# EAGLE library part SOC_RK3576 (library !GPLIB_ACTIVE)
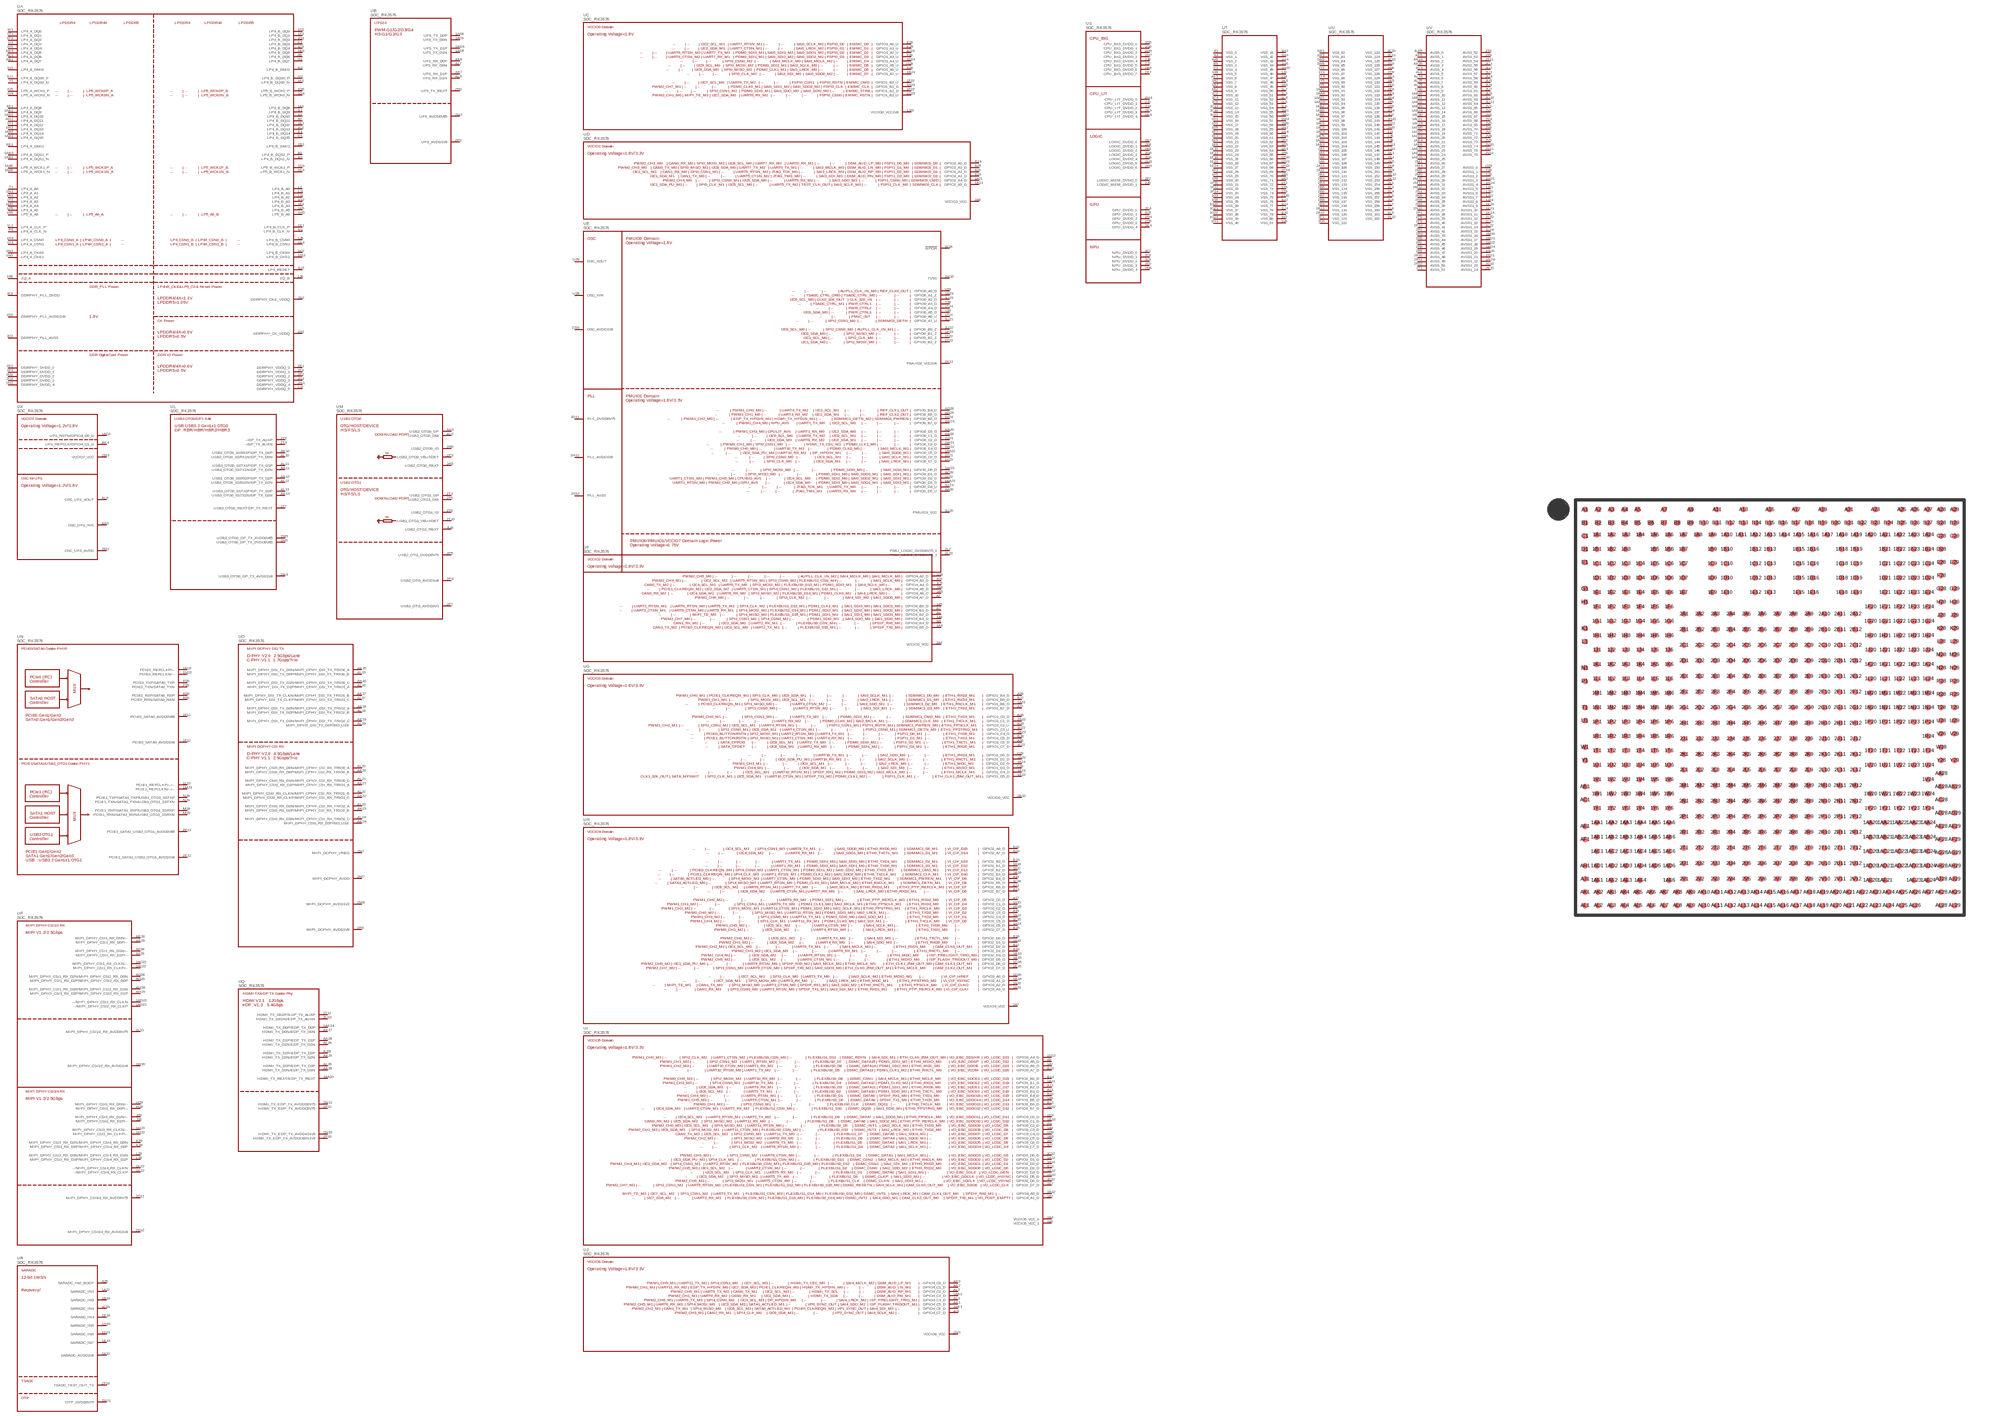
[diagram p73: symbol with the pads of FCCSP-698_L17.2-W16.1-TL_RK3576; footprint FCCSP-698_L17.2-W16.1-TL_RK3576]

Designator prefix U; gates A=RK3576-A B=RK3576-B C=RK3576-C D=RK3576-D E=RK3576-E F=RK3576-F G=RK3576-G H=RK3576-H I=RK3576-I J=RK3576-J K=RK3576-K L=RK3576-L M=RK3576-M N=RK3576-N O=RK3576-O P=RK3576-P Q=RK3576-Q R=RK3576-R S=RK3576-S T=RK3576-T U=RK3576-U V=RK3576-V

## SOC_RK3576  [FCCSP-698_L17.2-W16.1-TL_RK3576]
1A1  A:LP4_B_DQ8
1A2  T:VSS_7  pwr
1A3  T:VSS_8  pwr
1A4  F:GPIO4_B5_D
1A5  F:GPIO4_B0_D
1A6  F:GPIO4_B3_D
1A7  I:GPIO3_A6_D
1A8  I:GPIO3_C3_D
1A9  I:GPIO3_B5_D
1A10  I:GPIO3_D2_D
1A11  I:GPIO3_B1_D
1A12  I:GPIO3_D1_D
1A13  H:GPIO2_C4_D
1A14  H:GPIO2_C6_D
1A15  H:GPIO2_C1_D
1A16  H:GPIO2_D1_D
1A17  H:GPIO2_B2_D
1A18  H:GPIO2_B1_D
1A19  H:GPIO3_A3_D
1A20  H:GPIO3_A2_D
1A21  D:GPIO2_A4_D
1A22  R:SARADC_IN1
1A23  G:GPIO1_B6_D
1A24  G:GPIO1_D2_D
1AA1  A:LP4_A_DQ15
1AA2  U:VSS_91  pwr
1AA3  A:LP4_A_DQ14
1AA4  U:VSS_92  pwr
1AA5  A:LP5_A_WCK1_N
1AA6  A:LP5_A_WCK1_P
1AA20  Q:HDMI_TX_REXT/EDP_TX_REXT
1AA21  U:VSS_93  pwr
1AA22  E:GPIO0_C5_D
1AA23  E:GPIO0_D3_D
1AA24  U:VSS_94  pwr
1AB1  A:LP4_A_DQ9
1AB2  U:VSS_95  pwr
1AB3  A:LP4_A_DQS1_N
1AB4  A:LP4_A_DQS1_P
1AB5  U:VSS_96  pwr
1AB6  U:VSS_97  pwr
1AB20  V:AVSS_10  pwr
1AB21  V:AVSS_11  pwr
1AB22  V:AVSS_12  pwr
1AB23  V:AVSS_13  pwr
1AB24  V:AVSS_14  pwr
1AC1  U:VSS_98  pwr
1AC2  U:VSS_99  pwr
1AC3  U:VSS_100  pwr
1AC4  U:VSS_101  pwr
1AC5  U:VSS_102  pwr
1AC6  B:UFS_TX_D0N
1AC20  V:AVSS_15  pwr
1AC21  V:AVSS_16  pwr
1AC22  P:MIPI_DPHY_CSI1_RX_CLKP/--
1AC23  P:MIPI_DPHY_CSI1_RX_CLKN/--
1AC24  V:AVSS_17  pwr
1AD1  A:LP4_A_DQ10
1AD2  K:UFS_RSTN/GPIO4_D0_D
1AD3  U:VSS_103  pwr
1AD4  B:UFS_TX_D1P
1AD5  B:UFS_TX_D1N
1AD6  B:UFS_TX_D0P
1AD20  V:AVSS_18  pwr
1AD21  P:--/MIPI_DPHY_CSI2_RX_CLKP
1AD22  P:--/MIPI_DPHY_CSI2_RX_CLKN
1AD23  V:AVSS_19  pwr
1AD24  V:AVSS_20  pwr
1AE1  J:GPIO4_C6_D
1AE2  J:GPIO4_C3_D
1AE3  U:VSS_104  pwr
1AE4  V:AVSS_21  pwr
1AE6  V:AVSS_22  pwr
1AE20  V:AVSS_23  pwr
1AE21  V:AVSS_24  pwr
1AE23  V:AVSS_25  pwr
1AE24  Q:HDMI_TX_D0P/EDP_TX_D0P
1B1  A:LP4_B_DMI1
1B2  T:VSS_9  pwr
1B3  A:LP4_B_DQ5
1B5  F:GPIO4_A6_D
1B6  F:GPIO4_A5_D
1B7  I:GPIO4_A1_D
1B9  I:GPIO3_C5_D
1B10  I:GPIO3_C1_D
1B12  I:GPIO4_A0_D
1B13  H:GPIO2_D4_D
1B15  H:GPIO2_D5_D
1B16  H:GPIO2_B3_D
1B18  H:GPIO3_A1_D
1B19  R:SARADC_IN2
1B21  D:GPIO2_A5_D
1B22  G:GPIO1_C1_D
1B23  G:GPIO1_C4_D
1B24  C:GPIO1_A7_U
1C1  A:LP4_B_DQ13
1C2  T:VSS_10  pwr
1C3  A:LP4_B_DQ4
1C4  T:VSS_11  pwr
1C5  F:GPIO4_A4_D
1C6  F:GPIO4_A3_D
1C7  I:GPIO3_C7_D
1C9  T:VSS_12  pwr
1C10  I:GPIO3_D6_D
1C12  I:GPIO3_D0_D
1C13  T:VSS_13  pwr
1C15  H:GPIO2_C5_D
1C16  T:VSS_14  pwr
1C18  H:GPIO2_B5_D
1C19  R:SARADC_IN3
1C21  T:VSS_15  pwr
1C22  G:GPIO1_C7_D
1C23  G:GPIO1_C3_U
1C24  C:GPIO1_A2_U
1D1  T:VSS_16  pwr
1D2  A:LP4_B_DQ0
1D3  T:VSS_17  pwr
1D4  A:LP5_B_WCK1_P
1D5  T:VSS_18  pwr
1D6  F:GPIO4_A2_D
1D7  I:GPIO3_C6_D
1D9  I:GPIO3_C4_D
1D10  I:GPIO3_D5_D
1D12  I:GPIO3_B7_D
1D13  I:GPIO3_A4_D
1D15  H:GPIO2_C2_D
1D16  H:GPIO3_A0_D
1D18  H:GPIO2_D6_D
1D19  R:SARADC_IN5
1D21  R:SARADC_IN6
1D22  G:GPIO1_D1_D
1D23  C:GPIO1_B3_U
1D24  C:GPIO1_A4_U
1E1  A:LP4_B_DQ12
1E2  T:VSS_19  pwr
1E3  T:VSS_20  pwr
1E4  A:LP5_B_WCK1_N
1E5  T:VSS_21  pwr
1E6  T:VSS_22  pwr
1E7  I:GPIO3_D7_D
1E9  I:GPIO3_C0_D
1E10  T:VSS_23  pwr
1E12  I:GPIO3_D4_D
1E13  T:VSS_24  pwr
1E15  H:GPIO2_D7_D
1E16  T:VSS_25  pwr
1E18  R:SARADC_IN4
1E19  R:SARADC_IN7
1E21  G:GPIO1_D4_D
1E22  G:GPIO1_D5_D
1E23  T:VSS_26  pwr
1E24  T:VSS_27  pwr
1F1  A:LP4_B_DQS0_N
1F2  A:LP4_B_DQ1
1F3  T:VSS_28  pwr
1F4  A:LP4_B_A4
1F5  T:VSS_29  pwr
1F6  T:VSS_30  pwr
1F20  T:VSS_31  pwr
1F21  T:VSS_32  pwr
1F22  C:GPIO1_B0_U
1F23  C:GPIO1_B2_D
1F24  T:VSS_33  pwr
1G1  A:LP4_B_DQ2
1G2  A:LP4_B_A3
1G3  T:VSS_34  pwr
1G4  A:LP5_B_WCK0_N
1G5  A:LP5_B_WCK0_P
1G6  T:VSS_35  pwr
1G20  T:VSS_36  pwr
1G21  T:VSS_37  pwr
1G22  T:VSS_38  pwr
1G23  C:GPIO1_B1_D
1G24  T:VSS_39  pwr
1H1  T:VSS_40  pwr
1H2  T:VSS_41  pwr
1H3  T:VSS_42  pwr
1H4  T:VSS_43  pwr
1H5  A:LP5_B_A6
1H6  T:VSS_44  pwr
1H20  T:VSS_45  pwr
1H21  V:AVSS1_3  pwr
1H22  P:MIPI_DPHY_CSI3_RX_CLKP/--
1H23  P:MIPI_DPHY_CSI3_RX_CLKN/--
1H24  V:AVSS1_4  pwr
1J1  A:LP4_B_A1
1J2  T:VSS_46  pwr
1J3  A:LP4_B_A2
1J4  T:VSS_47  pwr
1J5  A:LP4_B_CSN0
1J6  A:ZQ_B
1J20  C:VCCIO0_VCC1V8
1J21  V:AVSS1_5  pwr
1J22  V:AVSS1_6  pwr
1J23  V:AVSS1_7  pwr
1J24  V:AVSS1_8  pwr
1K1  A:LP4_B_CLK_P
1K2  A:LP4_B_CKE0
1K3  T:VSS_48  pwr
1K4  A:LP4_B_CSN1
1K5  A:LP4_B_A5
1K6  T:VSS_49  pwr
1K20  V:AVSS1_9  pwr
1K21  V:AVSS1_10  pwr
1K22  P:--/MIPI_DPHY_CSI4_RX_CLKP
1K23  P:--/MIPI_DPHY_CSI4_RX_CLKN
1K24  V:AVSS1_11  pwr
1L1  A:LP4_A_CLK_P
1L2  T:VSS_50  pwr
1L3  T:VSS_51  pwr
1L4  T:VSS_52  pwr
1L5  T:VSS_53  pwr
1L6  T:VSS_54  pwr
1L20  V:AVSS1_12  pwr
1L21  V:AVSS1_13  pwr
1L22  V:AVSS1_14  pwr
1L23  N:PCIE1_REFCLKP/--/--
1L24  V:AVSS1_15  pwr
1M1  T:VSS_55  pwr
1M2  T:VSS_56  pwr
1M3  A:LP4_B_CKE1
1M4  T:VSS_57  pwr
1M5  A:LP4_A_A4
1M6  T:VSS_58  pwr
1M20  V:AVSS1_16  pwr
1M21  V:AVSS1_17  pwr
1M22  V:AVSS1_18  pwr
1M23  N:PCIE1_REFCLKN/--/--
1M24  V:AVSS1_19  pwr
1N1  A:LP4_A_A1
1N2  T:VSS_59  pwr
1N3  A:LP4_A_CKE0
1N4  T:VSS_60  pwr
1N5  A:LP4_A_CKE1
1N6  T:VSS_61  pwr
1N20  V:AVSS1_20  pwr
1N21  V:AVSS1_21  pwr
1N22  N:PCIE0_REFCLKP/--
1N23  N:PCIE0_REFCLKN/--
1N24  V:AVSS1_22  pwr
1P1  A:LP4_A_DQ2
1P2  T:VSS_62  pwr
1P3  T:VSS_63  pwr
1P4  T:VSS_64  pwr
1P5  A:LP4_A_A5
1P6  T:VSS_65  pwr
1P20  T:VSS_66  pwr
1P21  T:VSS_67  pwr
1P22  T:VSS_68  pwr
1P23  E:GPIO0_B1_Z
1P24  T:VSS_69  pwr
1R1  T:VSS_70  pwr
1R2  T:VSS_71  pwr
1R3  A:LP4_A_A2
1R4  A:LP4_A_CSN0
1R5  A:LP5_A_A6
1R6  A:ZQ_A
1R24  E:GPIO0_A1_Z
1T1  A:LP4_A_DQ1
1T2  A:LP4_A_A3
1T3  T:VSS_72  pwr
1T4  A:LP4_A_CSN1
1T5  T:VSS_73  pwr
1T6  T:VSS_74  pwr
1T20  T:VSS_75  pwr
1T21  E:GPIO0_A6_U
1T22  E:GPIO0_B2_Z
1T23  E:GPIO0_B3_Z
1T24  E:GPIO0_A4_D
1U1  A:LP4_A_DQS0_P
1U2  T:VSS_76  pwr
1U3  T:VSS_77  pwr
1U4  T:VSS_78  pwr
1U5  A:LP4_RESET
1U6  T:VSS_79  pwr
1U20  E:PMUIO1_VCC
1U21  E:GPIO0_A7_U
1U22  E:GPIO0_B0_Z
1U23  E:GPIO0_A2_D
1U24  E:GPIO0_D4_U
1V1  A:LP4_A_DMI0
1V2  T:VSS_80  pwr
1V3  A:LP4_A_DQ4
1V4  A:LP5_A_WCK0_N
1V5  A:LP5_A_WCK0_P
1V6  T:VSS_81  pwr
1V24  E:GPIO0_C2_D
1W1  U:VSS_82  pwr
1W2  A:LP4_A_DQ13
1W3  U:VSS_83  pwr
1W4  A:LP4_A_DQ5
1W5  U:VSS_84  pwr
1W6  U:VSS_85  pwr
1W20  P:MIPI_DPHY_CSI1/2_RX_AVDD1V8
1W21  E:GPIO0_C3_D
1W22  E:GPIO0_C4_D
1W23  E:GPIO0_D0_D
1W24  E:GPIO0_B7_D
1Y1  A:LP4_A_DQ12
1Y2  U:VSS_86  pwr
1Y3  U:VSS_87  pwr
1Y4  U:VSS_88  pwr
1Y5  U:VSS_89  pwr
1Y6  U:VSS_90  pwr
1Y20  V:AVSS_9  pwr
1Y21  E:GPIO0_C6_D
1Y22  E:GPIO0_D2_D
1Y23  E:GPIO0_C7_D
1Y24  E:GPIO0_B6_D
2A1  U:VSS_105  pwr
2A2  F:VCCIO2_VCC
2A3  U:VSS_106  pwr
2A4  I:VCCIO5_VCC_0
2A5  I:VCCIO5_VCC_1
2A6  U:VSS_107  pwr
2A7  H:VCCIO4_VCC
2A8  D:VCCIO1_VCC
2A9  U:VSS_108  pwr
2A10  R:SARADC_AVDD1V8
2A11  U:VSS_109  pwr
2A12  U:VSS_110  pwr
2B1  U:VSS_111  pwr
2B2  A:DDRPHY_CKE_VDDQ
2B3  U:VSS_112  pwr
2B4  U:VSS_113  pwr
2B5  U:VSS_114  pwr
2B6  U:VSS_115  pwr
2B7  U:VSS_116  pwr
2B8  U:VSS_117  pwr
2B9  U:VSS_118  pwr
2B10  G:VCCIO3_VCC
2B11  U:VSS_119  pwr
2B12  U:VSS_120  pwr
2C1  U:VSS_121  pwr
2C2  A:DDRPHY_PLL_AVSS
2C3  A:DDRPHY_PLL_DVDD
2C4  S:GPU_DVDD_0  pwr
2C5  S:GPU_DVDD_1  pwr
2C6  U:VSS_122  pwr
2C7  S:NPU_DVDD_0  pwr
2C8  S:NPU_DVDD_1  pwr
2C9  S:NPU_DVDD_2  pwr
2C10  U:VSS_123  pwr
2C11  U:VSS_124  pwr
2C12  U:VSS_125  pwr
2D1  A:DDRPHY_CK_VDDQ
2D2  A:DDRPHY_PLL_AVDD1V8
2D3  U:VSS_126  pwr
2D4  S:GPU_DVDD_2  pwr
2D5  S:GPU_DVDD_3  pwr
2D6  U:VSS_127  pwr
2D7  S:NPU_DVDD_3  pwr
2D8  S:NPU_DVDD_4  pwr
2D9  U:VSS_128  pwr
2D10  V:AVSS1_23  pwr
2D11  P:MIPI_DPHY_CSI3/4_RX_AVDD0V75
2D12  P:MIPI_DPHY_CSI3/4_RX_AVDD1V8
2E1  A:DDRPHY_VDDQ_0
2E2  A:DDRPHY_DVDD_0
2E3  U:VSS_129  pwr
2E4  S:GPU_DVDD_4  pwr
2E5  U:VSS_130  pwr
2E6  U:VSS_131  pwr
2E7  S:LOGIC_DVDD_0  pwr
2E8  U:VSS_132  pwr
2E9  U:VSS_133  pwr
2E10  V:AVSS1_24  pwr
2E11  N:PCIE1_SATA1_USB3_OTG1_AVDD0V85
2E12  N:PCIE1_SATA1_USB3_OTG1_AVDD1V8
2F1  A:DDRPHY_VDDQ_1
2F2  A:DDRPHY_VDDQ_2
2F3  A:DDRPHY_DVDD_1
2F4  U:VSS_134  pwr
2F5  U:VSS_135  pwr
2F6  U:VSS_136  pwr
2F7  S:LOGIC_MEM_DVDD_0  pwr
2F8  S:LOGIC_DVDD_1  pwr
2F9  S:LOGIC_DVDD_2  pwr
2F10  R:TSADC_TEST_OUT_TS
2F11  N:PCIE0_SATA0_AVDD0V85
2F12  N:PCIE0_SATA0_AVDD1V8
2G1  A:DDRPHY_VDDQ_3
2G2  A:DDRPHY_DVDD_2
2G3  A:DDRPHY_DVDD_3
2G4  U:VSS_137  pwr
2G5  S:CPU_BIG_DVDD_0  pwr
2G6  S:CPU_BIG_DVDD_1  pwr
2G7  U:VSS_138  pwr
2G8  S:LOGIC_DVDD_3  pwr
2G9  S:LOGIC_DVDD_4  pwr
2G10  U:VSS_139  pwr
2G11  E:PLL_DVDD0V75  pwr
2G12  E:PLL_AVSS  pwr
2H1  A:DDRPHY_VDDQ_4
2H2  A:DDRPHY_DVDD_4
2H3  U:VSS_140  pwr
2H4  S:CPU_LIT_DVDD_0  pwr
2H5  U:VSS_141  pwr
2H6  S:CPU_BIG_DVDD_2  pwr
2H7  S:CPU_BIG_DVDD_3  pwr
2H8  S:LOGIC_DVDD_5  pwr
2H9  S:LOGIC_DVDD_6  pwr
2H10  E:TVSS  pwr
2H11  R:OTP_DVDD0V75
2H12  E:PLL_AVDD1V8  pwr
2J1  U:VSS_142  pwr
2J2  A:DDRPHY_VDDQ_5
2J3  S:CPU_LIT_DVDD_1  pwr
2J4  S:CPU_LIT_DVDD_2  pwr
2J5  U:VSS_143  pwr
2J6  S:CPU_BIG_DVDD_4  pwr
2J7  S:CPU_BIG_DVDD_5  pwr
2J8  U:VSS_144  pwr
2J9  S:LOGIC_MEM_DVDD_1  pwr
2J10  E:OSC_AVDD1V8  pwr
2J11  U:VSS_145  pwr
2J12  U:VSS_146  pwr
2K1  U:VSS_147  pwr
2K2  U:VSS_148  pwr
2K3  S:CPU_LIT_DVDD_3  pwr
2K4  S:CPU_LIT_DVDD_4  pwr
2K5  U:VSS_149  pwr
2K6  S:CPU_BIG_DVDD_6  pwr
2K7  S:CPU_BIG_DVDD_7  pwr
2K8  U:VSS_150  pwr
2K9  U:VSS_151  pwr
2K10  U:VSS_152  pwr
2K11  E:PMUIO0_VCC1V8
2K12  U:VSS_153  pwr
2L1  U:VSS_154  pwr
2L2  E:PMU_LOGIC_DVDD0V75_0
2L3  U:VSS_155  pwr
2L4  U:VSS_156  pwr
2L5  U:VSS_157  pwr
2L6  U:VSS_158  pwr
2L7  U:VSS_159  pwr
2L8  U:VSS_160  pwr
2L9  U:VSS_161  pwr
2L10  E:PMU_LOGIC_DVDD0V75_1
2L11  P:MIPI_DPHY_CSI1/2_RX_AVDD0V75
2L12  U:VSS_162  pwr
2M1  V:AVSS_26  pwr
2M2  K:OSC_UFS_AVDD
2M3  K:VCCIO7_VCC
2M4  V:AVSS_27  pwr
2M5  L:USB3_OTG0_DP_TX_AVDD0V85
2M6  V:AVSS_28  pwr
2M7  O:MIPI_DCPHY_AVDD
2M8  O:MIPI_DCPHY_AVDD1V2
2M9  V:AVSS_29  pwr
2M10  V:AVSS_30  pwr
2M11  V:AVSS_31  pwr
2M12  V:AVSS_32  pwr
2N1  V:AVSS_33  pwr
2N2  B:UFS_AVDD0V85
2N3  J:VCCIO6_VCC
2N4  L:USB3_OTG0_DP_TX_AVDD1V8
2N5  L:USB3_OTG0_DP_TX_DVDD0V85
2N6  V:AVSS_34  pwr
2N7  O:MIPI_DCPHY_VREG
2N8  V:AVSS_35  pwr
2N9  V:AVSS_36  pwr
2N10  Q:HDMI_TX_EDP_TX_AVDDIO1V8
2N11  Q:HDMI_TX_EDP_TX_AVDDD0V75
2N12  V:AVSS_37  pwr
2P1  V:AVSS_38  pwr
2P2  B:UFS_AVDD1V8
2P3  M:USB2_OTG0_VBUSDET
2P4  M:USB2_OTG_AVDD1V8
2P5  M:USB2_OTG_DVDD0V75
2P6  V:AVSS_39  pwr
2P7  M:USB2_OTG_AVDD3V3
2P8  O:MIPI_DCPHY_AVDD1V8
2P9  V:AVSS_40  pwr
2P10  Q:HDMI_TX_EDP_TX_AVDDCMN1V8
2P11  Q:HDMI_TX_EDP_TX_AVDDC0V75
2P12  V:AVSS_41  pwr
2R1  V:AVSS_42  pwr
2R2  B:UFS_TX_REXT
2R3  M:USB2_OTG0_REXT
2R4  V:AVSS_43  pwr
2R5  V:AVSS_44  pwr
2R6  M:USB2_OTG0_ID
2R7  V:AVSS_45  pwr
2R8  V:AVSS_46  pwr
2R9  V:AVSS_47  pwr
2R10  V:AVSS_48  pwr
2R11  V:AVSS_49  pwr
2R12  V:AVSS_50  pwr
2T1  V:AVSS_51  pwr
2T2  L:--/DP_TX_AUXP
2T3  L:--/DP_TX_AUXN
2T4  M:USB2_OTG1_DP
2T5  M:USB2_OTG1_DM
2T6  V:AVSS_52  pwr
2T7  L:USB3_OTG0_REXT/DP_TX_REXT
2T8  V:AVSS_53  pwr
2T9  M:USB2_OTG1_ID
2T10  M:USB2_OTG1_VBUSDET
2T11  V:AVSS_54  pwr
2T12  Q:HDMI_TX_SBDP/EDP_TX_AUXP
2U1  V:AVSS_55  pwr
2U2  V:AVSS_56  pwr
2U3  V:AVSS_57  pwr
2U4  V:AVSS_58  pwr
2U5  V:AVSS_59  pwr
2U6  V:AVSS_60  pwr
2U7  V:AVSS_61  pwr
2U8  M:USB2_OTG1_REXT
2U9  V:AVSS_62  pwr
2U10  V:AVSS_63  pwr
2U11  V:AVSS_64  pwr
2U12  Q:HDMI_TX_SBDN/EDP_TX_AUXN
2V1  V:AVSS_65  pwr
2V2  V:AVSS_66  pwr
2V3  V:AVSS_67  pwr
2V4  V:AVSS_68  pwr
2V5  V:AVSS_69  pwr
2V6  V:AVSS_70  pwr
2V7  V:AVSS_71  pwr
2V8  V:AVSS_72  pwr
2V9  V:AVSS_73  pwr
2V10  V:AVSS_74  pwr
2V11  V:AVSS_75  pwr
2V12  V:AVSS_76  pwr
A1  T:VSS_0  pwr
A2  A:LP4_B_DQ11
A3  A:LP4_B_DQS1_P
A4  T:VSS_1  pwr
A5  A:LP4_B_DQ6
A7  F:GPIO4_A7_D
A9  I:GPIO3_A5_D
A11  I:GPIO3_B3_D
A13  I:GPIO3_B2_D
A15  H:GPIO2_C3_D
A17  H:GPIO2_C0_D
A19  H:GPIO2_B4_D
A21  H:GPIO2_B6_D
A23  D:GPIO2_A2_D
A25  R:SARADC_IN0_BOOT
A26  G:GPIO1_C6_D
A27  G:GPIO1_B7_D
A28  G:GPIO1_B4_D
A29  T:VSS_2  pwr
AA28  E:GPIO0_D5_U
AB1  A:LP4_A_DQ7
AB28  E:GPIO0_C1_D
AB29  E:GPIO0_C0_D
AC1  A:LP4_A_DQ6
AC28  E:GPIO0_D1_D
AD28  E:GPIO0_B4_D
AD29  E:GPIO0_B5_D
AE1  A:LP4_A_DMI1
AE28  P:MIPI_DPHY_CSI1_RX_D0N/--
AE29  P:MIPI_DPHY_CSI1_RX_D0P/--
AF1  A:LP4_A_DQ8
AF28  P:MIPI_DPHY_CSI1_RX_D1N/--
AF29  P:MIPI_DPHY_CSI1_RX_D1P/--
AG28  P:MIPI_DPHY_CSI1_RX_D2N/MIPI_DPHY_CSI2_RX_D0N
AG29  P:MIPI_DPHY_CSI1_RX_D2P/MIPI_DPHY_CSI2_RX_D0P
AH1  A:LP4_A_DQ11
AH28  P:MIPI_DPHY_CSI1_RX_D3N/MIPI_DPHY_CSI2_RX_D1N
AH29  P:MIPI_DPHY_CSI1_RX_D3P/MIPI_DPHY_CSI2_RX_D1P
AJ1  J:GPIO4_C7_D
AJ28  Q:HDMI_TX_D2P/EDP_TX_D2P
AJ29  V:AVSS_0  pwr
AK1  J:GPIO4_C5_D
AK2  J:GPIO4_C1_D
AK3  J:GPIO4_C0_D
AK4  K:UFS_REFCLK/GPIO4_D1_D
AK5  K:OSC_UFS_XIN
AK6  V:AVSS_1  pwr
AK7  B:UFS_RX_D1P
AK8  B:UFS_RX_D0P
AK9  M:USB2_OTG0_DP
AK10  L:USB3_OTG0_SSRX1P/DP_TX_D0P
AK11  L:USB3_OTG0_SSTX1N/DP_TX_D1N
AK12  L:USB3_OTG0_SSRX2P/DP_TX_D2P
AK13  L:USB3_OTG0_SSTX2N/DP_TX_D3N
AK14  V:AVSS_2  pwr
AK15  O:MIPI_DPHY_DSI_TX_D0N/MIPI_CPHY_DSI_TX_TRIO0_A
AK16  O:MIPI_DPHY_DSI_TX_D1N/MIPI_CPHY_DSI_TX_TRIO0_C
AK17  O:MIPI_DPHY_DSI_TX_CLKN/MIPI_CPHY_DSI_TX_TRIO1_B
AK18  O:MIPI_DPHY_DSI_TX_D2N/MIPI_CPHY_DSI_TX_TRIO2_A
AK19  O:MIPI_DPHY_DSI_TX_D3N/MIPI_CPHY_DSI_TX_TRIO2_C
AK20  O:MIPI_DPHY_CSI0_RX_D0P/MIPI_CPHY_CSI_RX_TRIO0_B
AK21  O:MIPI_DPHY_CSI0_RX_D1P/MIPI_CPHY_CSI_RX_TRIO1_A
AK22  O:MIPI_DPHY_CSI0_RX_CLKP/MIPI_CPHY_CSI_RX_TRIO1_C
AK23  O:MIPI_DPHY_CSI0_RX_D2P/MIPI_CPHY_CSI_RX_TRIO2_B
AK24  O:MIPI_DPHY_CSI0_RX_D3P/NO_USE
AK25  V:AVSS_3  pwr
AK26  Q:HDMI_TX_D3N/EDP_TX_D3N
AK27  Q:HDMI_TX_D0N/EDP_TX_D0N
AK28  Q:HDMI_TX_D1P/EDP_TX_D1P
AK29  Q:HDMI_TX_D2N/EDP_TX_D2N
AL1  T:VSS_6  pwr
AL2  J:GPIO4_C2_D
AL3  J:GPIO4_C4_D
AL4  V:AVSS_4  pwr
AL5  K:OSC_UFS_XOUT
AL6  B:UFS_RX_D1N
AL7  B:UFS_RX_D0N
AL8  V:AVSS_5  pwr
AL9  M:USB2_OTG0_DM
AL10  L:USB3_OTG0_SSRX1N/DP_TX_D0N
AL11  L:USB3_OTG0_SSTX1P/DP_TX_D1P
AL12  L:USB3_OTG0_SSRX2N/DP_TX_D2N
AL13  L:USB3_OTG0_SSTX2P/DP_TX_D3P
AL14  V:AVSS_6  pwr
AL15  O:MIPI_DPHY_DSI_TX_D0P/MIPI_CPHY_DSI_TX_TRIO0_B
AL16  O:MIPI_DPHY_DSI_TX_D1P/MIPI_CPHY_DSI_TX_TRIO1_A
AL17  O:MIPI_DPHY_DSI_TX_CLKP/MIPI_CPHY_DSI_TX_TRIO1_C
AL18  O:MIPI_DPHY_DSI_TX_D2P/MIPI_CPHY_DSI_TX_TRIO2_B
AL19  O:MIPI_DPHY_DSI_TX_D3P/NO_USE
AL20  O:MIPI_DPHY_CSI0_RX_D0N/MIPI_CPHY_CSI_RX_TRIO0_A
AL21  O:MIPI_DPHY_CSI0_RX_D1N/MIPI_CPHY_CSI_RX_TRIO0_C
AL22  O:MIPI_DPHY_CSI0_RX_CLKN/MIPI_CPHY_CSI_RX_TRIO1_B
AL23  O:MIPI_DPHY_CSI0_RX_D2N/MIPI_CPHY_CSI_RX_TRIO2_A
AL24  O:MIPI_DPHY_CSI0_RX_D3N/MIPI_CPHY_CSI_RX_TRIO2_C
AL25  V:AVSS_7  pwr
AL26  Q:HDMI_TX_D3P/EDP_TX_D3P
AL28  Q:HDMI_TX_D1N/EDP_TX_D1N
AL29  V:AVSS_8  pwr
B1  A:LP4_B_DQ9
B2  A:LP4_B_DQ10
B3  A:LP4_B_DQS1_N
B4  A:LP4_B_DMI0
B5  T:VSS_3  pwr
B6  F:GPIO4_B2_D
B7  F:GPIO4_B1_D
B8  F:GPIO4_B4_D
B9  I:GPIO3_C2_D
B10  I:GPIO3_B4_D
B11  I:GPIO3_B6_D
B12  I:GPIO3_D3_D
B13  I:GPIO3_A7_D
B14  I:GPIO3_B0_D
B15  H:GPIO2_C7_D
B16  H:GPIO2_D0_D
B17  H:GPIO2_D2_D
B18  H:GPIO2_D3_D
B19  H:GPIO2_B0_D
B20  H:GPIO2_A7_D
B21  H:GPIO2_B7_D
B22  H:GPIO2_A6_D
B23  D:GPIO2_A3_D
B24  D:GPIO2_A0_D
B25  D:GPIO2_A1_D
B26  G:GPIO1_C0_D
B27  G:GPIO1_B5_D
B28  G:GPIO1_C5_D
B29  G:GPIO1_C2_U
C1  T:VSS_4  pwr
C28  G:GPIO1_D3_D
C29  G:GPIO1_D0_D
D1  A:LP4_B_DQ15
D28  C:GPIO1_A6_U
E1  A:LP4_B_DQ14
E28  C:GPIO1_A0_U
E29  C:GPIO1_A1_U
F28  C:GPIO1_A3_U
G1  A:LP4_B_DQ7
G28  C:GPIO1_A5_U
G29  V:AVSS1_0  pwr
H1  A:LP4_B_DQS0_P
H28  P:MIPI_DPHY_CSI3_RX_D0P/--
H29  P:MIPI_DPHY_CSI3_RX_D0N/--
J28  P:MIPI_DPHY_CSI3_RX_D1P/--
J29  P:MIPI_DPHY_CSI3_RX_D1N/--
K1  A:LP4_B_DQ3
K28  P:MIPI_DPHY_CSI3_RX_D2P/MIPI_DPHY_CSI4_RX_D0P
K29  P:MIPI_DPHY_CSI3_RX_D2N/MIPI_DPHY_CSI4_RX_D0N
L1  A:LP4_B_A0
L28  P:MIPI_DPHY_CSI3_RX_D3P/MIPI_DPHY_CSI4_RX_D1P
L29  P:MIPI_DPHY_CSI3_RX_D3N/MIPI_DPHY_CSI4_RX_D1N
M28  N:PCIE1_RXP/SATA1_RXP/USB3_OTG1_SSRXP
M29  N:PCIE1_RXN/SATA1_RXN/USB3_OTG1_SSRXN
N1  A:LP4_B_CLK_N
N28  N:PCIE1_TXP/SATA1_TXP/USB3_OTG1_SSTXP
N29  N:PCIE1_TXN/SATA1_TXN/USB3_OTG1_SSTXN
P1  A:LP4_A_CLK_N
P28  N:PCIE0_TXP/SATA0_TXP
P29  N:PCIE0_TXN/SATA0_TXN
R28  N:PCIE0_RXP/SATA0_RXP
R29  N:PCIE0_RXN/SATA0_RXN
T1  A:LP4_A_A0
T28  V:AVSS1_1  pwr
T29  V:AVSS1_2  pwr
U1  A:LP4_A_DQ3
U28  E:OSC_XIN
U29  E:OSC_XOUT
V28  T:VSS_5  pwr
V29  E:GPIO0_A0_D
W1  A:LP4_A_DQ0
W28  E:!NPOR
Y1  A:LP4_A_DQS0_N
Y28  E:GPIO0_A3_D
Y29  E:GPIO0_A5_D

## Footprint FCCSP-698_L17.2-W16.1-TL_RK3576 (pad centres in mm)
smd 0.24 x 0.24: 1A1 -7.2,7.2; 1A2 -6.6,7.2; 1A3 -6,7.2; 1A4 -5.4,7.2; 1A5 -4.8,7.2; 1A6 -4.2,7.2; 1A7 -3.6,7.2; 1A8 -3,7.2; 1A9 -2.4,7.2; 1A10 -1.8,7.2; 1A11 -1.2,7.2; 1A12 -0.6,7.2; 1A13 0,7.2; 1A14 0.6,7.2; 1A15 1.2,7.2; 1A16 1.8,7.2; 1A17 2.4,7.2; 1A18 3,7.2; 1A19 3.6,7.2; 1A20 4.2,7.2; 1A21 4.8,7.2; 1A22 5.4,7.2; 1A23 6,7.2; 1A24 6.6,7.2; 1AA1 -7.2,-4.8; 1AA2 -6.6,-4.8; 1AA3 -6,-4.8; 1AA4 -5.4,-4.8; 1AA5 -4.8,-4.8; 1AA6 -4.2,-4.8; 1AA20 4.2,-4.8; 1AA21 4.8,-4.8; 1AA22 5.4,-4.8; 1AA23 6,-4.8; 1AA24 6.6,-4.8; 1AB1 -7.2,-5.4; 1AB2 -6.6,-5.4; 1AB3 -6,-5.4; 1AB4 -5.4,-5.4; 1AB5 -4.8,-5.4; 1AB6 -4.2,-5.4; 1AB20 4.2,-5.4; 1AB21 4.8,-5.4; 1AB22 5.4,-5.4; 1AB23 6,-5.4; 1AB24 6.6,-5.4; 1AC1 -7.2,-6; 1AC2 -6.6,-6; 1AC3 -6,-6; 1AC4 -5.4,-6; 1AC5 -4.8,-6; 1AC6 -4.2,-6; 1AC20 4.2,-6; 1AC21 4.8,-6; 1AC22 5.4,-6; 1AC23 6,-6; 1AC24 6.6,-6; 1AD1 -7.2,-6.6; 1AD2 -6.6,-6.6; 1AD3 -6,-6.6; 1AD4 -5.4,-6.6; 1AD5 -4.8,-6.6; 1AD6 -4.2,-6.6; 1AD20 4.2,-6.6; 1AD21 4.8,-6.6; 1AD22 5.4,-6.6; 1AD23 6,-6.6; 1AD24 6.6,-6.6; 1AE1 -7.2,-7.2; 1AE2 -6.6,-7.2; 1AE3 -6,-7.2; 1AE4 -5.4,-7.2; 1AE6 -4.2,-7.2; 1AE20 4.2,-7.2; 1AE21 4.8,-7.2; 1AE23 6,-7.2; 1AE24 6.6,-7.2; 1B1 -7.2,6.6; 1B2 -6.6,6.6; 1B3 -6,6.6; 1B5 -4.8,6.6; 1B6 -4.2,6.6; 1B7 -3.6,6.6; 1B9 -2.4,6.6; 1B10 -1.8,6.6; 1B12 -0.6,6.6; 1B13 0,6.6; 1B15 1.2,6.6; 1B16 1.8,6.6; 1B18 3,6.6; 1B19 3.6,6.6; 1B21 4.8,6.6; 1B22 5.4,6.6; 1B23 6,6.6; 1B24 6.6,6.6; 1C1 -7.2,6; 1C2 -6.6,6; 1C3 -6,6; 1C4 -5.4,6; 1C5 -4.8,6; 1C6 -4.2,6; 1C7 -3.6,6; 1C9 -2.4,6; 1C10 -1.8,6; 1C12 -0.6,6; 1C13 0,6; 1C15 1.2,6; 1C16 1.8,6; 1C18 3,6; 1C19 3.6,6; 1C21 4.8,6; 1C22 5.4,6; 1C23 6,6; 1C24 6.6,6; 1D1 -7.2,5.4; 1D2 -6.6,5.4; 1D3 -6,5.4; 1D4 -5.4,5.4; 1D5 -4.8,5.4; 1D6 -4.2,5.4; 1D7 -3.6,5.4; 1D9 -2.4,5.4; 1D10 -1.8,5.4; 1D12 -0.6,5.4; 1D13 0,5.4; 1D15 1.2,5.4; 1D16 1.8,5.4; 1D18 3,5.4; 1D19 3.6,5.4; 1D21 4.8,5.4; 1D22 5.4,5.4; 1D23 6,5.4; 1D24 6.6,5.4; 1E1 -7.2,4.8; 1E2 -6.6,4.8; 1E3 -6,4.8; 1E4 -5.4,4.8; 1E5 -4.8,4.8; 1E6 -4.2,4.8; 1E7 -3.6,4.8; 1E9 -2.4,4.8; 1E10 -1.8,4.8; 1E12 -0.6,4.8; 1E13 0,4.8; 1E15 1.2,4.8; 1E16 1.8,4.8; 1E18 3,4.8; 1E19 3.6,4.8; 1E21 4.8,4.8; 1E22 5.4,4.8; 1E23 6,4.8; 1E24 6.6,4.8; 1F1 -7.2,4.2; 1F2 -6.6,4.2; 1F3 -6,4.2; 1F4 -5.4,4.2; 1F5 -4.8,4.2; 1F6 -4.2,4.2; 1F20 4.2,4.2; 1F21 4.8,4.2; 1F22 5.4,4.2; 1F23 6,4.2; 1F24 6.6,4.2; 1G1 -7.2,3.6; 1G2 -6.6,3.6; 1G3 -6,3.6; 1G4 -5.4,3.6; 1G5 -4.8,3.6; 1G6 -4.2,3.6; 1G20 4.2,3.6; 1G21 4.8,3.6; 1G22 5.4,3.6; 1G23 6,3.6; 1G24 6.6,3.6; 1H1 -7.2,3; 1H2 -6.6,3; 1H3 -6,3; 1H4 -5.4,3; 1H5 -4.8,3; 1H6 -4.2,3; 1H20 4.2,3; 1H21 4.8,3; 1H22 5.4,3; 1H23 6,3; 1H24 6.6,3; 1J1 -7.2,2.4; 1J2 -6.6,2.4; 1J3 -6,2.4; 1J4 -5.4,2.4; 1J5 -4.8,2.4; 1J6 -4.2,2.4; 1J20 4.2,2.4; 1J21 4.8,2.4; 1J22 5.4,2.4; 1J23 6,2.4; 1J24 6.6,2.4; 1K1 -7.2,1.8; 1K2 -6.6,1.8; 1K3 -6,1.8; 1K4 -5.4,1.8; 1K5 -4.8,1.8; 1K6 -4.2,1.8; 1K20 4.2,1.8; 1K21 4.8,1.8; 1K22 5.4,1.8; 1K23 6,1.8; 1K24 6.6,1.8; 1L1 -7.2,1.2; 1L2 -6.6,1.2; 1L3 -6,1.2; 1L4 -5.4,1.2; 1L5 -4.8,1.2; 1L6 -4.2,1.2; 1L20 4.2,1.2; 1L21 4.8,1.2; 1L22 5.4,1.2; 1L23 6,1.2; 1L24 6.6,1.2; 1M1 -7.2,0.6; 1M2 -6.6,0.6; 1M3 -6,0.6; 1M4 -5.4,0.6; 1M5 -4.8,0.6; 1M6 -4.2,0.6; 1M20 4.2,0.6; 1M21 4.8,0.6; 1M22 5.4,0.6; 1M23 6,0.6; 1M24 6.6,0.6; 1N1 -7.2,0; 1N2 -6.6,0; 1N3 -6,0; 1N4 -5.4,0; 1N5 -4.8,0; 1N6 -4.2,0; 1N20 4.2,0; 1N21 4.8,0; 1N22 5.4,0; 1N23 6,0; 1N24 6.6,0; 1P1 -7.2,-0.6; 1P2 -6.6,-0.6; 1P3 -6,-0.6; 1P4 -5.4,-0.6; 1P5 -4.8,-0.6; 1P6 -4.2,-0.6; 1P20 4.2,-0.6; 1P21 4.8,-0.6; 1P22 5.4,-0.6; 1P23 6,-0.6; 1P24 6.6,-0.6; 1R1 -7.2,-1.2; 1R2 -6.6,-1.2; 1R3 -6,-1.2; 1R4 -5.4,-1.2; 1R5 -4.8,-1.2; 1R6 -4.2,-1.2; 1R24 6.6,-1.2; 1T1 -7.2,-1.8; 1T2 -6.6,-1.8; 1T3 -6,-1.8; 1T4 -5.4,-1.8; 1T5 -4.8,-1.8; 1T6 -4.2,-1.8; 1T20 4.2,-1.8; 1T21 4.8,-1.8; 1T22 5.4,-1.8; 1T23 6,-1.8; 1T24 6.6,-1.8; 1U1 -7.2,-2.4; 1U2 -6.6,-2.4; 1U3 -6,-2.4; 1U4 -5.4,-2.4; 1U5 -4.8,-2.4; 1U6 -4.2,-2.4; 1U20 4.2,-2.4; 1U21 4.8,-2.4; 1U22 5.4,-2.4; 1U23 6,-2.4; 1U24 6.6,-2.4; 1V1 -7.2,-3; 1V2 -6.6,-3; 1V3 -6,-3; 1V4 -5.4,-3; 1V5 -4.8,-3; 1V6 -4.2,-3; 1V24 6.6,-3; 1W1 -7.2,-3.6; 1W2 -6.6,-3.6; 1W3 -6,-3.6; 1W4 -5.4,-3.6; 1W5 -4.8,-3.6; 1W6 -4.2,-3.6; 1W20 4.2,-3.6; 1W21 4.8,-3.6; 1W22 5.4,-3.6; 1W23 6,-3.6; 1W24 6.6,-3.6; 1Y1 -7.2,-4.2; 1Y2 -6.6,-4.2; 1Y3 -6,-4.2; 1Y4 -5.4,-4.2; 1Y5 -4.8,-4.2; 1Y6 -4.2,-4.2; 1Y20 4.2,-4.2; 1Y21 4.8,-4.2; 1Y22 5.4,-4.2; 1Y23 6,-4.2; 1Y24 6.6,-4.2; 2A1 -3.575,3.9; 2A2 -2.925,3.9; 2A3 -2.275,3.9; 2A4 -1.625,3.9; 2A5 -0.975,3.9; 2A6 -0.325,3.9; 2A7 0.325,3.9; 2A8 0.975,3.9; 2A9 1.625,3.9; 2A10 2.275,3.9; 2A11 2.925,3.9; 2A12 3.575,3.9; 2B1 -3.575,3.25; 2B2 -2.925,3.25; 2B3 -2.275,3.25; 2B4 -1.625,3.25; 2B5 -0.975,3.25; 2B6 -0.325,3.25; 2B7 0.325,3.25; 2B8 0.975,3.25; 2B9 1.625,3.25; 2B10 2.275,3.25; 2B11 2.925,3.25; 2B12 3.575,3.25; 2C1 -3.575,2.6; 2C2 -2.925,2.6; 2C3 -2.275,2.6; 2C4 -1.625,2.6; 2C5 -0.975,2.6; 2C6 -0.325,2.6; 2C7 0.325,2.6; 2C8 0.975,2.6; 2C9 1.625,2.6; 2C10 2.275,2.6; 2C11 2.925,2.6; 2C12 3.575,2.6; 2D1 -3.575,1.95; 2D2 -2.925,1.95; 2D3 -2.275,1.95; 2D4 -1.625,1.95; 2D5 -0.975,1.95; 2D6 -0.325,1.95; 2D7 0.325,1.95; 2D8 0.975,1.95; 2D9 1.625,1.95; 2D10 2.275,1.95; 2D11 2.925,1.95; 2D12 3.575,1.95; 2E1 -3.575,1.3; 2E2 -2.925,1.3; 2E3 -2.275,1.3; 2E4 -1.625,1.3; 2E5 -0.975,1.3; 2E6 -0.325,1.3; 2E7 0.325,1.3; 2E8 0.975,1.3; 2E9 1.625,1.3; 2E10 2.275,1.3; 2E11 2.925,1.3; 2E12 3.575,1.3; 2F1 -3.575,0.65; 2F2 -2.925,0.65; 2F3 -2.275,0.65; 2F4 -1.625,0.65; 2F5 -0.975,0.65; 2F6 -0.325,0.65; 2F7 0.325,0.65; 2F8 0.975,0.65; 2F9 1.625,0.65; 2F10 2.275,0.65; 2F11 2.925,0.65; 2F12 3.575,0.65; 2G1 -3.575,0; 2G2 -2.925,0; 2G3 -2.275,0; 2G4 -1.625,0; 2G5 -0.975,0; 2G6 -0.325,0; 2G7 0.325,0; 2G8 0.975,0; 2G9 1.625,0; 2G10 2.275,0; 2G11 2.925,0; 2G12 3.575,0; 2H1 -3.575,-0.65; 2H2 -2.925,-0.65; 2H3 -2.275,-0.65; 2H4 -1.625,-0.65; 2H5 -0.975,-0.65; 2H6 -0.325,-0.65; 2H7 0.325,-0.65; 2H8 0.975,-0.65; 2H9 1.625,-0.65; 2H10 2.275,-0.65; 2H11 2.925,-0.65; 2H12 3.575,-0.65; 2J1 -3.575,-1.3; 2J2 -2.925,-1.3; 2J3 -2.275,-1.3; 2J4 -1.625,-1.3; 2J5 -0.975,-1.3; 2J6 -0.325,-1.3; 2J7 0.325,-1.3; 2J8 0.975,-1.3; 2J9 1.625,-1.3; 2J10 2.275,-1.3; 2J11 2.925,-1.3; 2J12 3.575,-1.3; 2K1 -3.575,-1.95; 2K2 -2.925,-1.95; 2K3 -2.275,-1.95; 2K4 -1.625,-1.95; 2K5 -0.975,-1.95; 2K6 -0.325,-1.95; 2K7 0.325,-1.95; 2K8 0.975,-1.95; 2K9 1.625,-1.95; 2K10 2.275,-1.95; 2K11 2.925,-1.95; 2K12 3.575,-1.95; 2L1 -3.575,-2.6; 2L2 -2.925,-2.6; 2L3 -2.275,-2.6; 2L4 -1.625,-2.6; 2L5 -0.975,-2.6; 2L6 -0.325,-2.6; 2L7 0.325,-2.6; 2L8 0.975,-2.6; 2L9 1.625,-2.6; 2L10 2.275,-2.6; 2L11 2.925,-2.6; 2L12 3.575,-2.6; 2M1 -3.575,-3.25; 2M2 -2.925,-3.25; 2M3 -2.275,-3.25; 2M4 -1.625,-3.25; 2M5 -0.975,-3.25; 2M6 -0.325,-3.25; 2M7 0.325,-3.25; 2M8 0.975,-3.25; 2M9 1.625,-3.25; 2M10 2.275,-3.25; 2M11 2.925,-3.25; 2M12 3.575,-3.25; 2N1 -3.575,-3.9; 2N2 -2.925,-3.9; 2N3 -2.275,-3.9; 2N4 -1.625,-3.9; 2N5 -0.975,-3.9; 2N6 -0.325,-3.9; 2N7 0.325,-3.9; 2N8 0.975,-3.9; 2N9 1.625,-3.9; 2N10 2.275,-3.9; 2N11 2.925,-3.9; 2N12 3.575,-3.9; 2P1 -3.575,-4.55; 2P2 -2.925,-4.55; 2P3 -2.275,-4.55; 2P4 -1.625,-4.55; 2P5 -0.975,-4.55; 2P6 -0.325,-4.55; 2P7 0.325,-4.55; 2P8 0.975,-4.55; 2P9 1.625,-4.55; 2P10 2.275,-4.55; 2P11 2.925,-4.55; 2P12 3.575,-4.55; 2R1 -3.575,-5.2; 2R2 -2.925,-5.2; 2R3 -2.275,-5.2; 2R4 -1.625,-5.2; 2R5 -0.975,-5.2; 2R6 -0.325,-5.2; 2R7 0.325,-5.2; 2R8 0.975,-5.2; 2R9 1.625,-5.2; 2R10 2.275,-5.2; 2R11 2.925,-5.2; 2R12 3.575,-5.2; 2T1 -3.575,-5.85; 2T2 -2.925,-5.85; 2T3 -2.275,-5.85; 2T4 -1.625,-5.85; 2T5 -0.975,-5.85; 2T6 -0.325,-5.85; 2T7 0.325,-5.85; 2T8 0.975,-5.85; 2T9 1.625,-5.85; 2T10 2.275,-5.85; 2T11 2.925,-5.85; 2T12 3.575,-5.85; 2U1 -3.575,-6.5; 2U2 -2.925,-6.5; 2U3 -2.275,-6.5; 2U4 -1.625,-6.5; 2U5 -0.975,-6.5; 2U6 -0.325,-6.5; 2U7 0.325,-6.5; 2U8 0.975,-6.5; 2U9 1.625,-6.5; 2U10 2.275,-6.5; 2U11 2.925,-6.5; 2U12 3.575,-6.5; 2V1 -3.575,-7.15; 2V2 -2.925,-7.15; 2V3 -2.275,-7.15; 2V4 -1.625,-7.15; 2V5 -0.975,-7.15; 2V6 -0.325,-7.15; 2V7 0.325,-7.15; 2V8 0.975,-7.15; 2V9 1.625,-7.15; 2V10 2.275,-7.15; 2V11 2.925,-7.15; 2V12 3.575,-7.15; A1 -7.7,8.25; A2 -7.15,8.25; A3 -6.6,8.25; A4 -6.05,8.25; A5 -5.5,8.25; A7 -4.4,8.25; A9 -3.3,8.25; A11 -2.2,8.25; A13 -1.1,8.25; A15 0,8.25; A17 1.1,8.25; A19 2.2,8.25; A21 3.3,8.25; A23 4.4,8.25; A25 5.5,8.25; A26 6.05,8.25; A27 6.6,8.25; A28 7.15,8.25; A29 7.7,8.25; AA28 7.15,-2.75; AB1 -7.7,-3.3; AB28 7.15,-3.3; AB29 7.7,-3.3; AC1 -7.7,-3.85; AC28 7.15,-3.85; AD28 7.15,-4.4; AD29 7.7,-4.4; AE1 -7.7,-4.95; AE28 7.15,-4.95; AE29 7.7,-4.95; AF1 -7.7,-5.5; AF28 7.15,-5.5; AF29 7.7,-5.5; AG28 7.15,-6.05; AG29 7.7,-6.05; AH1 -7.7,-6.6; AH28 7.15,-6.6; AH29 7.7,-6.6; AJ1 -7.7,-7.15; AJ28 7.15,-7.15; AJ29 7.7,-7.15; AK1 -7.7,-7.7; AK2 -7.15,-7.7; AK3 -6.6,-7.7; AK4 -6.05,-7.7; AK5 -5.5,-7.7; AK6 -4.95,-7.7; AK7 -4.4,-7.7; AK8 -3.85,-7.7; AK9 -3.3,-7.7; AK10 -2.75,-7.7; AK11 -2.2,-7.7; AK12 -1.65,-7.7; AK13 -1.1,-7.7; AK14 -0.55,-7.7; AK15 0,-7.7; AK16 0.55,-7.7; AK17 1.1,-7.7; AK18 1.65,-7.7; AK19 2.2,-7.7; AK20 2.75,-7.7; AK21 3.3,-7.7; AK22 3.85,-7.7; AK23 4.4,-7.7; AK24 4.95,-7.7; AK25 5.5,-7.7; AK26 6.05,-7.7; AK27 6.6,-7.7; AK28 7.15,-7.7; AK29 7.7,-7.7; AL1 -7.7,-8.25; AL2 -7.15,-8.25; AL3 -6.6,-8.25; AL4 -6.05,-8.25; AL5 -5.5,-8.25; AL6 -4.95,-8.25; AL7 -4.4,-8.25; AL8 -3.85,-8.25; AL9 -3.3,-8.25; AL10 -2.75,-8.25; AL11 -2.2,-8.25; AL12 -1.65,-8.25; AL13 -1.1,-8.25; AL14 -0.55,-8.25; AL15 0,-8.25; AL16 0.55,-8.25; AL17 1.1,-8.25; AL18 1.65,-8.25; AL19 2.2,-8.25; AL20 2.75,-8.25; AL21 3.3,-8.25; AL22 3.85,-8.25; AL23 4.4,-8.25; AL24 4.95,-8.25; AL25 5.5,-8.25; AL26 6.05,-8.25; AL28 7.15,-8.25; AL29 7.7,-8.25; B1 -7.7,7.7; B2 -7.15,7.7; B3 -6.6,7.7; B4 -6.05,7.7; B5 -5.5,7.7; B6 -4.95,7.7; B7 -4.4,7.7; B8 -3.85,7.7; B9 -3.3,7.7; B10 -2.75,7.7; B11 -2.2,7.7; B12 -1.65,7.7; B13 -1.1,7.7; B14 -0.55,7.7; B15 0,7.7; B16 0.55,7.7; B17 1.1,7.7; B18 1.65,7.7; B19 2.2,7.7; B20 2.75,7.7; B21 3.3,7.7; B22 3.85,7.7; B23 4.4,7.7; B24 4.95,7.7; B25 5.5,7.7; B26 6.05,7.7; B27 6.6,7.7; B28 7.15,7.7; B29 7.7,7.7; C1 -7.7,7.15; C28 7.15,7.15; C29 7.7,7.15; D1 -7.7,6.6; D28 7.15,6.6; E1 -7.7,6.05; E28 7.15,6.05; E29 7.7,6.05; F28 7.15,5.5; G1 -7.7,4.95; G28 7.15,4.95; G29 7.7,4.95; H1 -7.7,4.4; H28 7.15,4.4; H29 7.7,4.4; J28 7.15,3.85; J29 7.7,3.85; K1 -7.7,3.3; K28 7.15,3.3; K29 7.7,3.3; L1 -7.7,2.75; L28 7.15,2.75; L29 7.7,2.75; M28 7.15,2.2; M29 7.7,2.2; N1 -7.7,1.65; N28 7.15,1.65; N29 7.7,1.65; P1 -7.7,1.1; P28 7.15,1.1; P29 7.7,1.1; R28 7.15,0.55; R29 7.7,0.55; T1 -7.7,0; T28 7.15,0; T29 7.7,0; U1 -7.7,-0.55; U28 7.15,-0.55; U29 7.7,-0.55; V28 7.15,-1.1; V29 7.7,-1.1; W1 -7.7,-1.65; W28 7.15,-1.65; Y1 -7.7,-2.2; Y28 7.15,-2.2; Y29 7.7,-2.2